# EAGLE library part LTC1867 (library quadcopter)
Micropower, 3V, 16-Bit, 8-Channel 175ksps ADCs
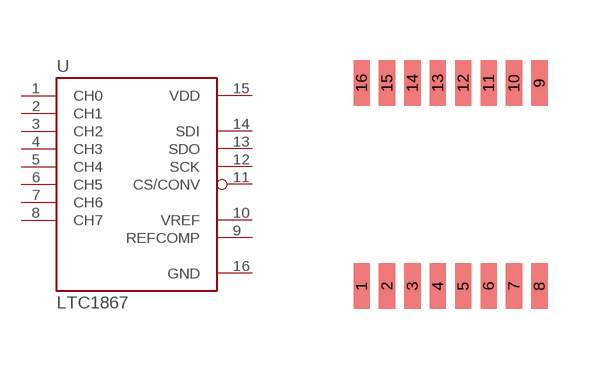
[diagram p1: symbol with the pads of SO-8; footprint SO-8]

Designator prefix -

## LTC1867  [SO-8]
1  CH0
2  CH1
3  CH2
4  CH3
5  CH4
6  CH5
7  CH6
8  CH7
9  REFCOMP
10  VREF
11  CS/CONV
12  SCK
13  SDO
14  SDI
15  VDD
16  GND

## Footprint SO-8 (pad centres in mm)
smd 0.406 x 1.143: 1 0,0; 2 0.635,0; 3 1.27,0; 4 1.905,0; 5 2.54,0; 6 3.175,0; 7 3.81,0; 8 4.445,0; 9 4.445,5.08; 10 3.81,5.08; 11 3.175,5.08; 12 2.54,5.08; 13 1.905,5.08; 14 1.27,5.08; 15 0.635,5.08; 16 0,5.08